# Altium footprint library Transistors.PcbLib: 18 footprints (part 1 of 2)
Each footprint in its own frame and in the unit in brackets; x right, y up, seen from the top. Pads: shape width x height; smd on the part's side, far side on the other; paste and mask are expansions set on the pad; w line width, h text height; cw(c..) or ccw(c..) is an arc to the next point about the centre after c.
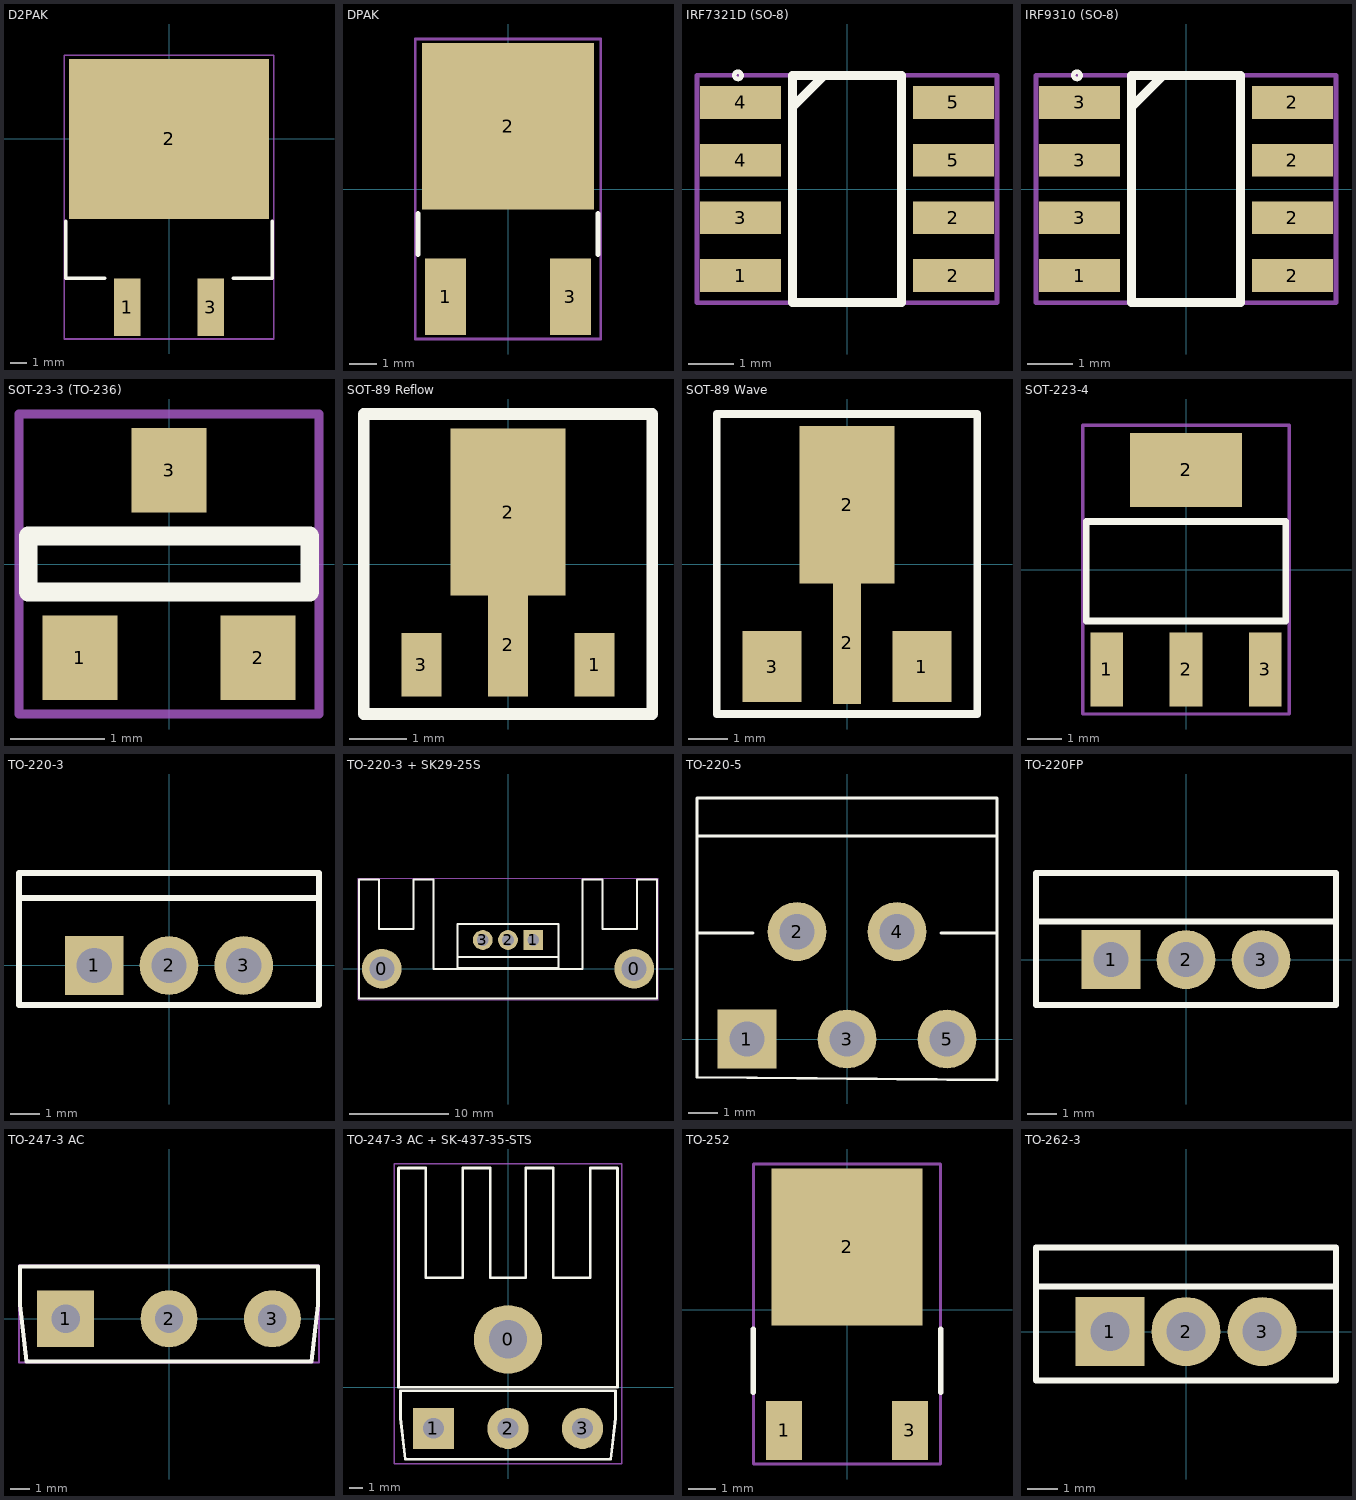
[diagram p0: the footprints below, top view; thin cyan lines are the x and y axes]

## D2PAK [mm]
pads (3):
  rect 1.6x3.5 smd: 1(-2.54,-10.27) 3(2.54,-10.27)
  rect 12.2x9.75 smd: 2(0,0)
Top Overlay:
  lines w0.2: -6.3,-5 -6.3,-8.5 -3.9,-8.5 ; 3.9,-8.5 6.3,-8.5 6.3,-5
Border:
  lines w0.1: -6.4,-12.2 6.4,-12.2 6.4,5.1 -6.4,5.1 -6.4,-12.2
3D body "User Library-DPAK.STEP": height 4.98, standoff -0.03, extent -5.08,-11.216 5.08,4.048

## DPAK [mm]
pads (3):
  rect 1.5x2.8 smd: 1(-2.286,-3.95) 3(2.286,-3.95)
  rect 6.3x6.1 smd: 2(0,2.3)
Top Overlay:
  lines w0.2: -3.3,-2.4 -3.3,-0.9 ; 3.3,-2.4 3.3,-0.9
Border:
  lines w0.1: -3.4,-5.5 -3.4,5.5 3.4,5.5 3.4,-5.5 -3.4,-5.5
3D body "User Library-DPAK-1.STEP": height 2.34, standoff -0.07, extent -3.27,-4.911 3.27,5.028

## IRF7321D (SO-8) [mm]
pads (8):
  rect 1.78x0.72 smd: 1(-2.34,-1.905) 2(2.34,-1.905) 2(2.34,-0.635) 3(-2.34,-0.635) 4(-2.34,0.635) 4(-2.34,1.905) 5(2.34,0.635) 5(2.34,1.905)
Top Overlay:
  circle w0.1: c-2.4,2.5 r0.08
  lines w0.2: -1.2,1.8 -0.5,2.5 ; -1.2,-2.5 1.2,-2.5 1.2,2.5 -1.2,2.5 -1.2,-2.5
Border:
  lines w0.1: -3.3,-2.5 -3.3,2.5 3.3,2.5 3.3,-2.5 -3.3,-2.5
3D body "User Library-so8-3.STEP": height 1.7, standoff 0, extent -3,-2.45 3,2.45

## IRF9310 (SO-8) [mm]
pads (8):
  rect 1.78x0.72 smd: 1(-2.34,-1.905) 2(2.34,-1.905) 2(2.34,-0.635) 2(2.34,0.635) 2(2.34,1.905) 3(-2.34,-0.635) 3(-2.34,0.635) 3(-2.34,1.905)
Top Overlay:
  circle w0.1: c-2.4,2.5 r0.08
  lines w0.2: -1.2,1.8 -0.5,2.5 ; -1.2,-2.5 -1.2,2.5 1.2,2.5 1.2,-2.5 -1.2,-2.5
Border:
  lines w0.1: -3.3,-2.5 3.3,-2.5 3.3,2.5 -3.3,2.5 -3.3,-2.5
3D body "User Library-so8-3.STEP": height 1.7, standoff 0, extent -3,-2.45 3,2.45

## SOT-23-3 (TO-236) [mm]
pads (3):
  rect 0.8x0.9 smd: 1(-0.95,-1) 2(0.95,-1) 3(0,1)
Top Overlay:
  lines w0.2: -1.5,-0.3 -1.5,0.3 1.5,0.3 1.5,-0.3 -1.5,-0.3
Border:
  lines w0.1: -1.6,-1.6 -1.6,1.6 1.6,1.6 1.6,-1.6 -1.6,-1.6
3D body "irlml6402trpbf.stp": height 1.05, standoff 0, extent -1.46,-1.156 1.46,1.206

## SOT-89 Reflow [mm]
pads (4):
  rect 0.7x1.1 smd: 1(1.5,-1.75) 3(-1.5,-1.75)
  rect 0.7x1.8 smd: 2(0,-1.4)
  rect 2x2.9 smd: 2(0,0.9)
Top Overlay:
  lines w0.2: -2.5,-2.6 -2.5,2.6 2.5,2.6 2.5,-2.6 -2.5,-2.6
Border:
  lines w0.1: -2.5,-2.6 -2.5,2.6 2.5,2.6 2.5,-2.6 -2.5,-2.6
3D body "User Library-SOT89-3.STEP": height 1.54, standoff 0, extent -2.25,-2.05 2.25,2.2

## SOT-89 Wave [mm]
pads (4):
  rect 1.5x1.8 smd: 1(1.9,-2.6) 3(-1.9,-2.6)
  rect 0.7x3.1 smd: 2(0,-2)
  rect 2.4x4 smd: 2(0,1.5)
Top Overlay:
  lines w0.2: -3.3,-3.8 3.3,-3.8 3.3,3.8 -3.3,3.8 -3.3,-3.8
Border:
  lines w0.1: -3.3,-3.8 3.3,-3.8 3.3,3.8 -3.3,3.8 -3.3,-3.8
3D body "User Library-SOT89-3.STEP": height 1.54, standoff 0, extent -2.25,-2.25 2.25,2

## SOT-223-4 [mm]
pads (4):
  rect 0.95x2.15 smd: 1(-2.3,-2.9) 2(0,-2.9) 3(2.3,-2.9)
  rect 3.25x2.15 smd: 2(0,2.9)
Top Overlay:
  lines w0.2: -2.9,-1.5 -2.9,1.4 2.9,1.4 2.9,-1.5 -2.9,-1.5
Border:
  lines w0.1: -3,-4.2 -3,4.2 3,4.2 3,-4.2 -3,-4.2
3D body "ALSRobot-SOT-223.STEP": height 1.64, standoff -0.01, extent -3.25,-3.5 3.25,3.5

## TO-220-3 [mm]
pads (3):
  rect 2x2 hole 1.2: 1(-2.54,0)
  round 2 hole 1.2: 2(0,0) 3(2.54,0)
Top Overlay:
  lines w0.2: -5.1,2.3 5.1,2.3 ; -5.1,-1.35 -5.1,3.15 5.1,3.15 5.1,-1.35 -5.1,-1.35
Border:
  lines w0.1: -5.1,-1.4 -5.1,3.2 ; -5.1,-1.4 5.1,-1.4 ; -5.1,-1.4 -5.1,3.2 ; -5.1,-1.4 5.1,-1.4 ; -5.1,3.2 5.1,3.2 ; -5.1,3.2 5.1,3.2 ; 5.1,-1.4 5.1,3.2 ; 5.1,-1.4 5.1,3.2
3D body "CircuitWorks-TO-220HS.STEP": height 20.54, standoff -1.81, extent -5.09,-1.397 5.07,3.175

## TO-220-3 + SK29-25S [mm]
pads (5):
  round 4 hole 2.5: 0(-12.7,0) 0(12.7,0)
  rect 2x2 hole 1.2: 1(2.54,2.9)
  round 2 hole 1.2: 2(0,2.9) 3(-2.54,2.9)
Top Overlay:
  lines w0.2: -5.1,1.2 5.1,1.2 ; -15,-3 15,-3 15,9 13,9 13,4 9.5,4 9.5,9 7.5,9 7.5,0 -7.5,0 -7.5,9 -9.5,9 -9.5,4 -13,4 -13,9 -15,9 -15,-3 ; -5.1,0.1 -5.1,4.5 5.1,4.5 5.1,0.1 -5.1,0.1
Border:
  lines w0.1: -15.1,-3.1 -15.1,9.1 15.1,9.1 15.1,-3.1 -15.1,-3.1
3D body "TO-220-3 + SK29-25S.stp": height 25, standoff -7.5, extent -14.5,-3 14.5,9

## TO-220-5 [mm]
pads (5):
  rect 2x2 hole 1.2: 1(-3.4,0)
  round 2 hole 1.2: 2(-1.7,3.65) 3(0,0) 4(1.7,3.65) 5(3.4,0)
Top Overlay:
  lines w0.1: -5.1,3.9 -5.1,-1.3 5.1,-1.4 5.1,3.9 ; -5.1,6.9 5.1,6.9 ; -3.2,3.6 -5.1,3.6 -5.1,8.2 5.1,8.2 5.1,3.6 3.2,3.6
3D body "User Library-TO220-5.STEP": height 22.35, standoff -1.64, extent -5.08,-0.183 5.08,8.057

## TO-220FP [mm]
pads (3):
  rect 2x2 hole 1.2: 1(-2.55,0)
  round 2 hole 1.2: 2(0,0) 3(2.55,0)
Top Overlay:
  lines w0.2: -5.1,1.3 5.1,1.3 ; -5.1,-1.55 -5.1,2.95 5.1,2.95 5.1,-1.55 -5.1,-1.55
Border:
  lines w0.1: -5.1,-1.6 5.1,-1.6 5.1,3 -5.1,3 -5.1,-1.6
3D body "User Library-2STP535FP Transistors Darlingtons PNP TO-220FP.STEP": height 26.15, standoff -3.45, extent -5.09,-1.543 5.09,2.977

## TO-247-3 AC [mm]
pads (3):
  rect 3x3 hole 1.5: 1(-5.44,0)
  round 3 hole 1.5: 2(0,0) 3(5.44,0)
Top Overlay:
  lines w0.2: -7.85,0.74 -7.5,-2.25 7.5,-2.25 7.85,0.74 7.85,2.75 -7.85,2.75 -7.85,0.74
Border:
  lines w0.1: -7.9,-2.3 7.9,-2.3 7.9,2.8 -7.9,2.8 -7.9,-2.3
3D body "User Library-TO_247.STEP": height 32, standoff -4.05, extent -7.9,-2.31 7.9,3

## TO-247-3 AC + SK-437-35-STS [mm]
pads (4):
  round 5 hole 2.8: 0(0,3.5)
  rect 3x3 hole 1.5: 1(-5.44,-3)
  round 3 hole 1.5: 2(0,-3) 3(5.44,-3)
Top Overlay:
  lines w0.2: -8,0 8,0 8,16 6,16 6,8 3.3,8 3.3,16 1.3,16 1.3,8 -1.3,8 -1.3,16 -3.3,16 -3.3,8 -6,8 -6,16 -8,16 -8,0 ; -7.85,-2.26 -7.85,-0.25 7.85,-0.25 7.85,-2.26 7.5,-5.25 -7.5,-5.25 -7.85,-2.26
Border:
  lines w0.1: -8.3,-5.6 -8.3,16.3 8.3,16.3 8.3,-5.6 -8.3,-5.6
3D body "TO-247 + SK-437-35-STS.stp": height 35, standoff -4.5, extent -8,-7.31 8,16

## TO-252 [mm]
pads (3):
  rect 1.3x2.15 smd: 1(-2.285,-4.38) 3(2.285,-4.38)
  rect 5.5x5.7 smd: 2(0,2.285)
Top Overlay:
  lines w0.2: -3.4,-3 -3.4,-0.7 ; 3.4,-3 3.4,-0.7
Border:
  lines w0.1: -3.4,-5.6 3.4,-5.6 3.4,5.3 -3.4,5.3 -3.4,-5.6
3D body "User Library-DPAK_TO-252AA.STEP": height 2.37, standoff -0.03, extent -3.367,-5.198 3.367,4.902

## TO-262-3 [mm]
pads (3):
  rect 2.3x2.3 hole 1.3: 1(-2.54,0)
  round 2.3 hole 1.3: 2(0,0) 3(2.54,0)
Top Overlay:
  lines w0.2: -5,1.5 5,1.5 ; -5,-1.63 -5,2.8 5,2.8 5,-1.63 -5,-1.63
Border:
  lines w0.1: -5,-1.6 5,-1.6 5,2.8 -5,2.8 -5,-1.6
3D body "User Library-TO262-L.STEP": height 20.65, standoff -4.5, extent -5,-1.223 5,3.287